# Altium footprint library Fromm.PcbLib: 105 footprints (part 7 of 7)
Each footprint in its own frame and in the unit in brackets; x right, y up, seen from the top. Pads: shape width x height; smd on the part's side, far side on the other; paste and mask are expansions set on the pad; w line width, h text height; cw(c..) or ccw(c..) is an arc to the next point about the centre after c.
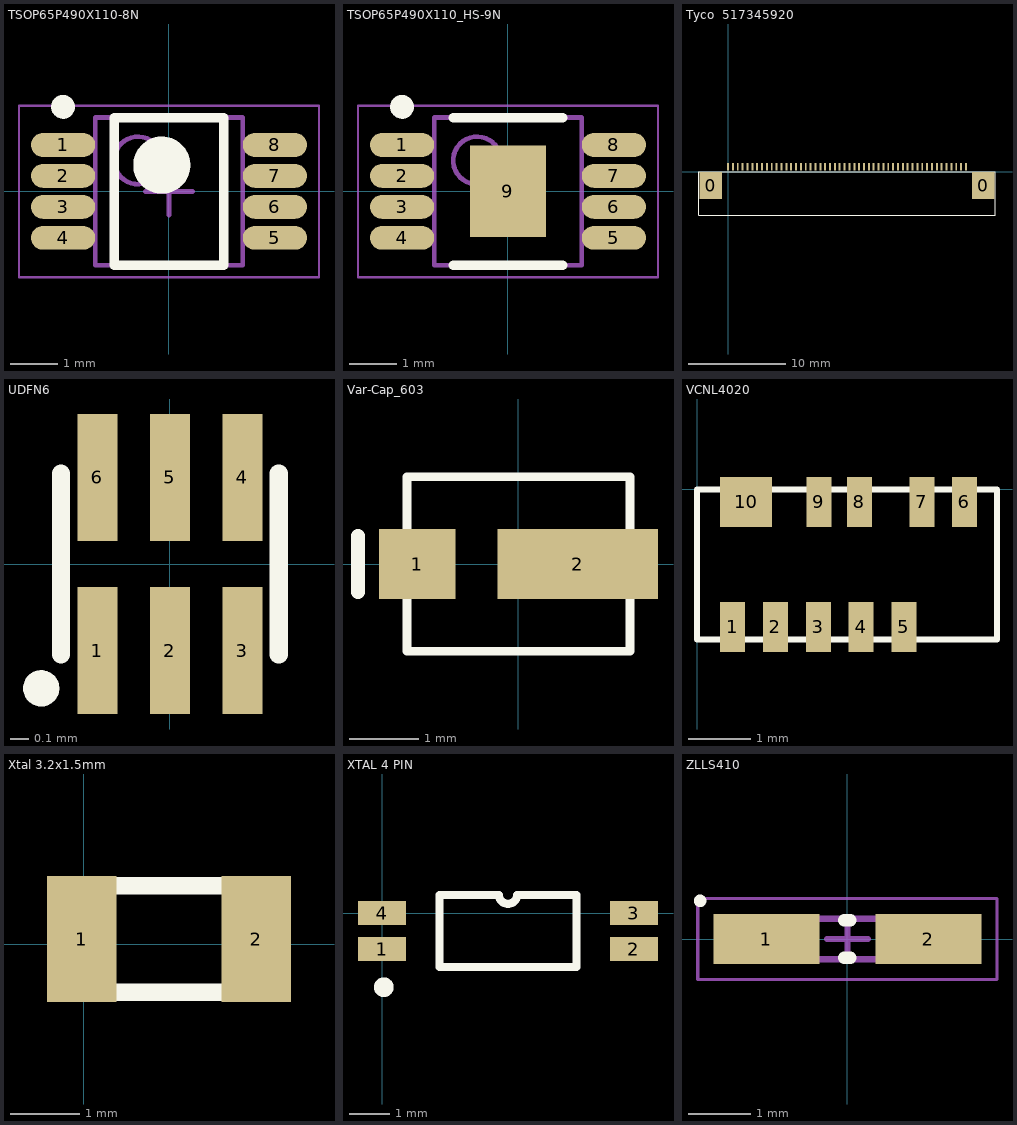
[diagram p6: the footprints below, top view; thin cyan lines are the x and y axes]

## TSOP65P490X110-8N [mm] "TSOP, 8-Leads, Body 3.00x3.00mm, Pitch 0.65mm, IPC Medium Density"
height 1.1
pads (8):
  oval 1.35x0.5 smd: 1(-2.225,0.975) 2(-2.225,0.325) 3(-2.225,-0.325) 4(-2.225,-0.975) 5(2.225,-0.975) 6(2.225,-0.325) 7(2.225,0.325) 8(2.225,0.975)
Top Overlay:
  circle w0.6: c-0.15,0.55 r0.3
  circle w0.25: c-2.225,1.775 r0.125
  lines w0.2: -1.15,-1.55 1.15,-1.55 1.15,1.55 -1.15,1.55 -1.15,-1.55
Mechanical 13:
  circle w0.1: c-0.65,0.65 r0.5
  lines w0.1: -1.55,-1.55 1.55,-1.55 1.55,1.55 -1.55,1.55 -1.55,-1.55
Mechanical 15:
  lines w0.05: -3.15,-1.8 3.15,-1.8 3.15,1.8 -3.15,1.8 -3.15,-1.8
  lines w0.1: -0.5,0 0.5,0 ; 0,-0.5 0,0.5
3D body: height 1.1, standoff 0.05, extent -1.55,-1.55 1.55,1.55

## TSOP65P490X110_HS-9N [mm] "TSOP, 8-Leads, Body 3.00x3.00mm, Pitch 0.65mm, Thermal Pad 1.92x1.60mm, IPC Medium Density"
height 1.1
pads (9):
  oval 1.35x0.5 smd: 1(-2.225,0.975) 2(-2.225,0.325) 3(-2.225,-0.325) 4(-2.225,-0.975) 5(2.225,-0.975) 6(2.225,-0.325) 7(2.225,0.325) 8(2.225,0.975)
  rect 1.6x1.92 smd: 9(0,0)
Top Overlay:
  circle w0.25: c-2.225,1.775 r0.125
  lines w0.2: -1.15,-1.55 1.15,-1.55 ; -1.15,1.55 1.15,1.55
Mechanical 13:
  circle w0.1: c-0.65,0.65 r0.5
  lines w0.1: -1.55,-1.55 1.55,-1.55 1.55,1.55 -1.55,1.55 -1.55,-1.55
Mechanical 15:
  lines w0.05: -3.15,-1.8 3.15,-1.8 3.15,1.8 -3.15,1.8 -3.15,-1.8
  lines w0.1: -0.5,0 0.5,0 ; 0,-0.5 0,0.5
3D body: height 1.1, standoff 0.05, extent -1.55,-1.55 1.55,1.55

## Tyco  517345920 [mm] "Giganto Connecter"
height 2
pads (52):
  rect 2.3x2.8 smd: 0(-1.8,-1.45) 0(26.3,-1.45)
  rect 0.2x0.8 smd: 1(0,0.5) 2(0.5,0.5) 3(1,0.5) 4(1.5,0.5) 5(2,0.5) 6(2.5,0.5) 7(3,0.5) 8(3.5,0.5) 9(4,0.5) 10(4.5,0.5) 11(5,0.5) 12(5.5,0.5) 13(6,0.5) 14(6.5,0.5) 15(7,0.5) 16(7.5,0.5) 17(8,0.5) 18(8.5,0.5) 19(9,0.5) 20(9.5,0.5) 21(10,0.5) 22(10.5,0.5) 23(11,0.5) 24(11.5,0.5) 25(12,0.5) 26(12.5,0.5) 27(13,0.5) 28(13.5,0.5) 29(14,0.5) 30(14.5,0.5) 31(15,0.5) 32(15.5,0.5) 33(16,0.5) 34(16.5,0.5) 35(17,0.5) 36(17.5,0.5) 37(18,0.5) 38(18.5,0.5) 39(19,0.5) 40(19.5,0.5) 41(20,0.5) 42(20.5,0.5) 43(21,0.5) 44(21.5,0.5) 45(22,0.5) 46(22.5,0.5) 47(23,0.5) 48(23.5,0.5) 49(24,0.5) 50(24.5,0.5)
Top Overlay:
  lines w0.1: -3,-4.4 -3,0 -2.75,0 ; -3,-4.25 -3,-4.5 -2.75,-4.5 ; -2.93,-4.5 27.5,-4.5 ; -2.93,0 27.5,0 27.5,-4.5 ; 27.5,-4.25 27.5,-4.5

## UDFN6 [mm] "UDFN6 - Level Shifter -  NLSV1T244"
height 0.5
pads (6):
  rect 0.22x0.7 smd: 1(-0.4,-0.477) 2(0,-0.477) 3(0.4,-0.477) 4(0.4,0.477) 5(0,0.477) 6(-0.4,0.477)
Top Overlay:
  circle w0.1: c-0.71,-0.686 r0.05
  lines w0.1: -0.6,-0.5 -0.6,0.5 ; 0.6,-0.5 0.6,0.5

## Var-Cap_603 [mm] "Var-Cap 603 Compatible, DK: 490-2009 & SG2026CT"
height 1.3
pads (2):
  rect 1.1x1 smd: 1(-1.45,0)
  rect 2.3x1 smd: 2(0.85,0)
Top Overlay:
  lines w0.127: -1.6,-1.25 1.6,-1.25 1.6,1.25 -1.6,1.25 -1.6,-1.25
  lines w0.2: -2.3,-0.4 -2.3,0.4

## VCNL4020 [mm] "Weird Footprint IR IC"
pads (10):
  rect 0.4x0.8 smd: 1(0.57,-2.2) 2(1.255,-2.2) 3(1.94,-2.2) 4(2.625,-2.2) 5(3.31,-2.2) 6(4.28,-0.2) 7(3.6,-0.2) 8(2.6,-0.2) 9(1.95,-0.2)
  rect 0.83x0.8 smd: 10(0.785,-0.2)
Top Overlay:
  lines w0.1: 0,-2.4 0,0 4.8,0 4.8,-2.4 0,-2.4

## Xtal 3.2x1.5mm [mm] "SMD crystal 3.2mmx1.5mm"
pads (2):
  rect 1x1.8 smd: 1(-0.029,0.075) 2(2.471,0.075)
Top Overlay:
  lines w0.254: 0.459,-0.687 1.983,-0.687 ; 0.459,0.837 1.983,0.837

## XTAL 4 PIN [mm]
pads (4):
  rect 1.2x0.6 smd: 1(0,-0.9) 2(6.3,-0.9) 3(6.3,0) 4(0,0)
Top Overlay:
  circle w0.254: c0.045,-1.854 r0.12
  lines w0.2: 1.435,-1.35 4.865,-1.35 4.865,0.45 3.375,0.45 cw(c3.15,0.45) 2.925,0.45 1.435,0.45 1.435,-1.35

## ZLLS410 [mm] "Schottky Diode"
height 1.1
pads (2):
  rect 1.7x0.8 smd: 1(-1.3,0) 2(1.3,0)
Top Overlay:
  circle w0.1: c-2.362,0.612 r0.05
  lines w0.2: -0.05,-0.3 0.05,-0.3 ; -0.05,0.3 0.05,0.3
Mechanical 13:
  lines w0.1: -1.875,-0.325 1.875,-0.325 1.875,0.325 -1.875,0.325 -1.875,-0.325
Mechanical 15:
  lines w0.05: -2.4,-0.65 2.4,-0.65 2.4,0.65 -2.4,0.65 -2.4,-0.65
  lines w0.1: -0.325,0 0.325,0 ; 0,-0.325 0,0.325
3D body: height 1.1, standoff 0, extent 0.525,-0.325 1.875,0.325
3D body: height 1.1, standoff 0, extent -1.875,-0.325 -0.525,0.325
3D body: height 1.1, standoff 0, extent -0.525,-0.325 0.525,0.325